# Altium footprint library WSON-8_5x6mm.PcbLib: 1 footprints
Each footprint in its own frame and in the unit in brackets; x right, y up, seen from the top. Pads: shape width x height; smd on the part's side, far side on the other; paste and mask are expansions set on the pad; w line width, h text height; cw(c..) or ccw(c..) is an arc to the next point about the centre after c.
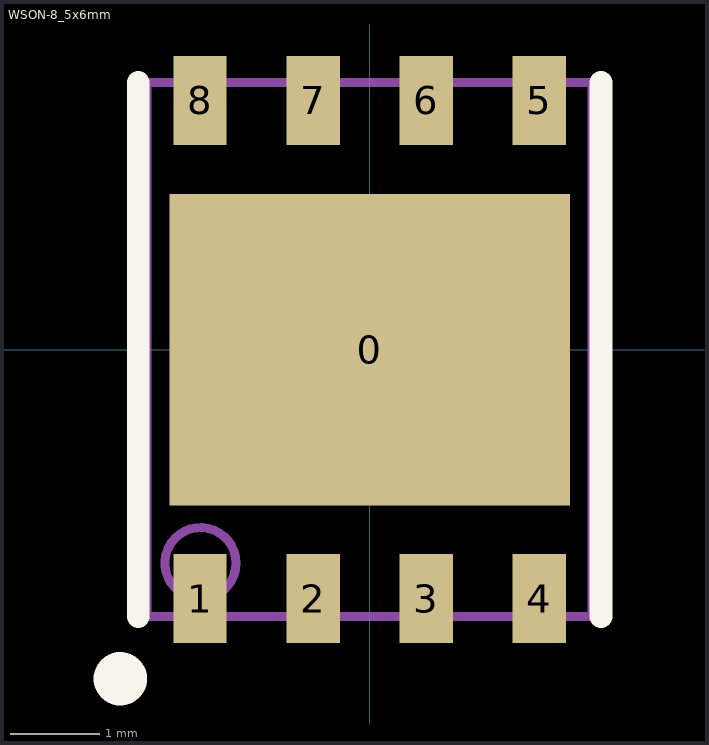
[diagram p0: the footprint, top view; thin cyan lines are the x and y axes]

## WSON-8_5x6mm [mm]
pads (9):
  rect 4.5x3.5 smd: 0(0,0)
  rect 0.6x1 smd: 1(-1.905,-2.8) 2(-0.635,-2.8) 3(0.635,-2.8) 4(1.905,-2.8) 5(1.905,2.8) 6(0.635,2.8) 7(-0.635,2.8) 8(-1.905,2.8)
Top Overlay:
  circle w0.3: c-2.8,-3.7 r0.15
  lines w0.254: -2.6,-3 -2.6,3 ; 2.6,-3 2.6,3
Mechanical 13:
  circle w0.1: c-1.9,-2.4 r0.4
  lines w0.1: -2.5,-3 -2.5,3 2.5,3 2.5,-3 -2.5,-3